# EAGLE library part FT232H (library chips_old)
Single Channel USB to Multipurpose I/O IC
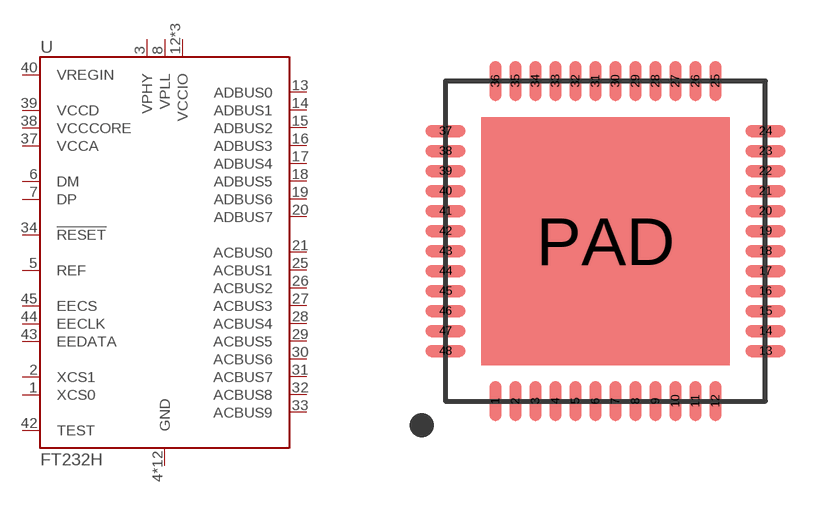
[diagram p32: symbol with the pads of QFN-48-8MM; footprint QFN-48-8MM]

Designator prefix U

## FT232HQ (DIGIKEY: 768-1102-1-ND; MOUSER: 895-FT232HQ-REEL; NEWARK: 65W8039)  [QFN-48-8MM]
1  XCS0
2  XCS1
3  VPHY
4  GND
5  REF
6  DM
7  DP
8  VPLL
9  GND
10  GND
11  GND
12  VCCIO
13  ADBUS0
14  ADBUS1
15  ADBUS2
16  ADBUS3
17  ADBUS4
18  ADBUS5
19  ADBUS6
20  ADBUS7
21  ACBUS0
22  GND
23  GND
24  VCCIO
25  ACBUS1
26  ACBUS2
27  ACBUS3
28  ACBUS4
29  ACBUS5
30  ACBUS6
31  ACBUS7
32  ACBUS8
33  ACBUS9
34  !RESET
35  GND
36  GND
37  VCCA
38  VCCCORE
39  VCCD
40  VREGIN
41  GND
42  TEST
43  EEDATA
44  EECLK
45  EECS
46  VCCIO
47  GND
48  GND
PAD  GND

## Footprint QFN-48-8MM (pad centres in mm)
smd 0.3 x 1: 1 -2.75,-4; 2 -2.25,-4; 3 -1.75,-4; 4 -1.25,-4; 5 -0.75,-4; 6 -0.25,-4; 7 0.25,-4; 8 0.75,-4; 9 1.25,-4; 10 1.75,-4; 11 2.25,-4; 12 2.75,-4; 25 2.75,4; 26 2.25,4; 27 1.75,4; 28 1.25,4; 29 0.75,4; 30 0.25,4; 31 -0.25,4; 32 -0.75,4; 33 -1.25,4; 34 -1.75,4; 35 -2.25,4; 36 -2.75,4
smd 1 x 0.3: 13 4,-2.75; 14 4,-2.25; 15 4,-1.75; 16 4,-1.25; 17 4,-0.75; 18 4,-0.25; 19 4,0.25; 20 4,0.75; 21 4,1.25; 22 4,1.75; 23 4,2.25; 24 4,2.75; 37 -4,2.75; 38 -4,2.25; 39 -4,1.75; 40 -4,1.25; 41 -4,0.75; 42 -4,0.25; 43 -4,-0.25; 44 -4,-0.75; 45 -4,-1.25; 46 -4,-1.75; 47 -4,-2.25; 48 -4,-2.75
smd 6.2 x 6.2: PAD 0,0